# Altium schematic symbol library SCH - POWER - SWITCHMODE - TI TPS6124x DRV.SchLib: 1 symbol
Pins are listed as number, name and electrical type; pins without a type are passive.

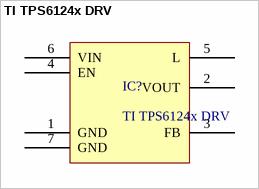
[diagram p0: symbol TI TPS6124x DRV]

## TI TPS6124x DRV
designator IC?
Integrated Circuit
pins: 1 GND, 2 VOUT, 3 FB, 4 EN, 5 L, 6 VIN, 7 GND